# Altium footprint library Capacitor.PcbLib: 8 footprints
Each footprint in its own frame and in the unit in brackets; x right, y up, seen from the top. Pads: shape width x height; smd on the part's side, far side on the other; paste and mask are expansions set on the pad; w line width, h text height; cw(c..) or ccw(c..) is an arc to the next point about the centre after c.
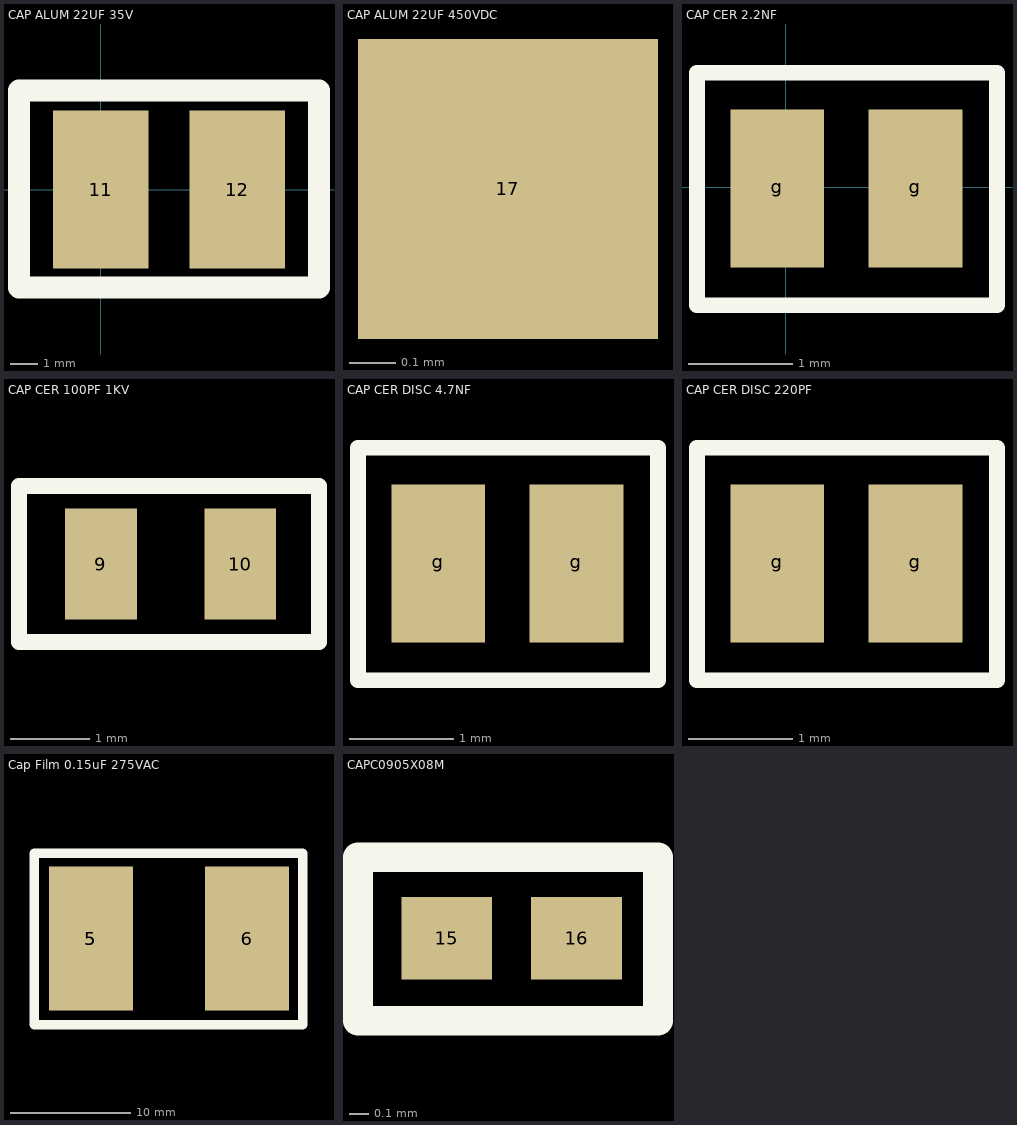
[diagram p0: the footprints below, top view; thin cyan lines are the x and y axes]

## CAP ALUM 22UF 35V [mm]
pads (2):
  rect 3.5x5.8 smd mask+0.102: 11(0,0) 12(5,0)
Top Overlay:
  lines w0.8: -3,-3.594 -3,3.639 8,3.639 8,-3.594 -3,-3.594
3D body "User Library-SMD Polymer Aluminum Electrolytic Capacitors B6 22uF 16V.step": height 5.9, standoff -0.05, extent -0.206,-2.997 5.094,3.003

## CAP ALUM 22UF 450VDC [mm]
pads (1):
  rect 0.65x0.65 smd paste+0 mask+0.102: 17(2509.4,2532.575)

## CAP CER 2.2NF [mm]
pads (2):
  rect 0.9x1.52 smd: g(-0.08,-0.01) g(1.247,-0.01)
Top Overlay:
  lines w0.15: -0.85,-1.13 2.03,-1.13 2.03,1.1 -0.85,1.1 -0.85,-1.13
3D body "User Library-Chip Cap_MLCC_0805 (2012)_A.STEP": height -0.05, standoff -0.65, extent -0.43,-0.63 1.57,0.62

## CAP CER 100PF 1KV [mm]
pads (2):
  rect 0.9x1.4 smd: 9(1266.52,1264.78) 10(1268.27,1264.78)
Top Overlay:
  lines w0.2: 1265.49,1265.76 1265.49,1263.8 1269.26,1263.8 1269.26,1265.76 1265.5,1265.76
3D body "CircuitWorks-CAPACITOR 0805.step": height 0.73, standoff -0.03, extent 1266.38,1264.125 1268.381,1265.435

## CAP CER DISC 4.7NF [mm]
pads (2):
  rect 0.9x1.52 smd: g(1262.07,1266.89) g(1263.397,1266.89)
Top Overlay:
  lines w0.15: 1261.3,1265.77 1261.3,1268 1264.18,1268 1264.18,1265.77 1261.3,1265.77
3D body "User Library-Chip Cap_MLCC_0805 (2012)_A.STEP": height 0, standoff -0.6, extent 1261.741,1266.262 1263.741,1267.512

## CAP CER DISC 220PF [mm]
pads (2):
  rect 0.9x1.52 smd: g(1267.09,1268.12) g(1268.417,1268.12)
Top Overlay:
  lines w0.15: 1266.32,1267 1266.32,1269.23 1269.2,1269.23 1269.2,1267 1266.32,1267
3D body "User Library-Chip Cap_MLCC_0805 (2012)_A.STEP": height -0.05, standoff -0.65, extent 1266.74,1267.5 1268.74,1268.75

## Cap Film 0.15uF 275VAC [mm]
pads (3):
  rect 7x12 smd: 5(1221.23,1233.47) 5(1221.23,1233.47) 6(1234.23,1233.47)
Top Overlay:
  lines w0.8: 1216.51,1226.31 1216.51,1240.59 1238.87,1240.59 1238.87,1226.28 1216.54,1226.28
3D body "r46ki315040m2m.stp": height 16.1, standoff -31, extent 1218.55,1230.565 1236.85,1236.77

## CAPC0905X08M [mm] "Chip Capacitor, 2-Leads, Body 0,90x0,50mm, IPC Low Density"
height 0.8
pads (2):
  rect 0.46x0.42 smd mask+0.102: 15(1265.476,1266.988) 16(1266.136,1266.988)
Top Overlay:
  lines w0.15: 1265.026,1266.57 1265.026,1267.4 1266.55,1267.4 1266.55,1266.57 1265.026,1266.57
3D body "User Library-SMD Ceramic Capacitors_0603 (1608)_CD.step": height 0.8, standoff 0, extent 1264.99,1266.59 1266.591,1267.39